# Altium schematic symbol library LERTDUWS2WM-JBLA-1LBMA-P4V5A-PMBNA-CQ.SchLib: 1 symbol
Pins are listed as number, name and electrical type; pins without a type are passive.

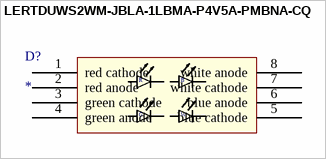
[diagram p0: symbol LERTDUWS2WM-JBLA-1LBMA-P4V5A-PMBNA-CQ]

## LERTDUWS2WM-JBLA-1LBMA-P4V5A-PMBNA-CQ
designator D?
LED OSTAR RGBW 625/527/453NM SMD; Designator: D; Supplier 1: Mouser; Supplier Part Number 1: 720-LERTDUWS2WMA2120
pins: 1 red cathode, 2 red anode, 3 green cathode, 4 green anode, 5 blue cathode, 6 blue anode, 7 white cathode, 8 white anode
text: R; B; G; W